# EAGLE library part OLIMEX_IC_H5TQ2G83CFR-H9C (library A13-OLinuXino_WIFI_Rev_G)
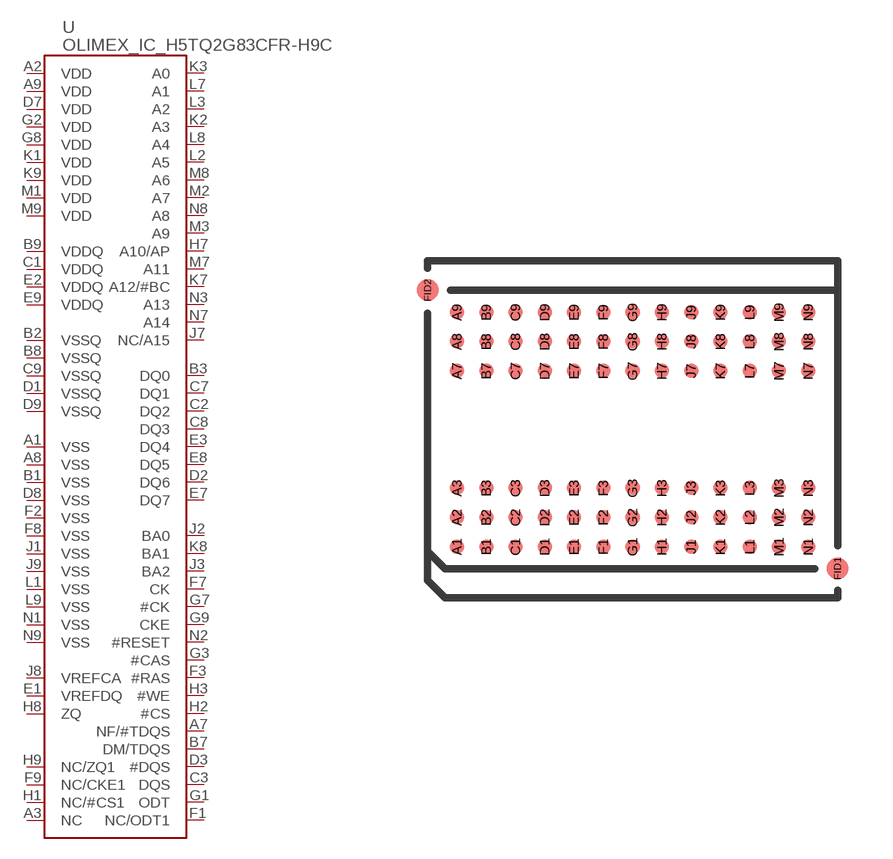
[diagram p9: symbol with the pads of OLIMEX_IC_FBGA78; footprint OLIMEX_IC_FBGA78]

Designator prefix U

## OLIMEX_IC_H5TQ2G83CFR-H9C  [OLIMEX_IC_FBGA78]
A1  VSS  pwr
A2  VDD  pwr
A3  NC  nc
A7  NF/#TDQS
A8  VSS  pwr
A9  VDD  pwr
B1  VSS  pwr
B2  VSSQ  pwr
B3  DQ0
B7  DM/TDQS
B8  VSSQ  pwr
B9  VDDQ  pwr
C1  VDDQ  pwr
C2  DQ2
C3  DQS
C7  DQ1
C8  DQ3
C9  VSSQ  pwr
D1  VSSQ  pwr
D2  DQ6
D3  #DQS
D7  VDD  pwr
D8  VSS  pwr
D9  VSSQ  pwr
E1  VREFDQ
E2  VDDQ  pwr
E3  DQ4
E7  DQ7
E8  DQ5
E9  VDDQ  pwr
F1  NC/ODT1  in
F2  VSS  pwr
F3  #RAS
F7  CK
F8  VSS  pwr
F9  NC/CKE1  in
G1  ODT
G2  VDD  pwr
G3  #CAS
G7  #CK
G8  VDD  pwr
G9  CKE
H1  NC/#CS1  in
H2  #CS
H3  #WE
H7  A10/AP
H8  ZQ
H9  NC/ZQ1  in
J1  VSS  pwr
J2  BA0
J3  BA2
J7  NC/A15  in
J8  VREFCA
J9  VSS  pwr
K1  VDD  pwr
K2  A3
K3  A0
K7  A12/#BC
K8  BA1
K9  VDD  pwr
L1  VSS  pwr
L2  A5
L3  A2
L7  A1
L8  A4
L9  VSS  pwr
M1  VDD  pwr
M2  A7
M3  A9
M7  A11
M8  A6
M9  VDD  pwr
N1  VSS  pwr
N2  #RESET
N3  A13
N7  A14
N8  A8
N9  VSS  pwr

## Footprint OLIMEX_IC_FBGA78 (pad centres in mm)
Rotated counterclockwise 90 by Penko to ba as is in the real reel
smd 0.4 x 0.4: A1 -4.8,-3.2; A2 -4.8,-2.4; A3 -4.8,-1.6; A7 -4.8,1.6; A8 -4.8,2.4; A9 -4.8,3.2; B1 -4,-3.2; B2 -4,-2.4; B3 -4,-1.6; B7 -4,1.6; B8 -4,2.4; B9 -4,3.2; C1 -3.2,-3.2; C2 -3.2,-2.4; C3 -3.2,-1.6; C7 -3.2,1.6; C8 -3.2,2.4; C9 -3.2,3.2; D1 -2.4,-3.2; D2 -2.4,-2.4; D3 -2.4,-1.6; D7 -2.4,1.6; D8 -2.4,2.4; D9 -2.4,3.2; E1 -1.6,-3.2; E2 -1.6,-2.4; E3 -1.6,-1.6; E7 -1.6,1.6; E8 -1.6,2.4; E9 -1.6,3.2; F1 -0.8,-3.2; F2 -0.8,-2.4; F3 -0.8,-1.6; F7 -0.8,1.6; F8 -0.8,2.4; F9 -0.8,3.2; G1 0,-3.2; G2 0,-2.4; G3 0,-1.6; G7 0,1.6; G8 0,2.4; G9 0,3.2; H1 0.8,-3.2; H2 0.8,-2.4; H3 0.8,-1.6; H7 0.8,1.6; H8 0.8,2.4; H9 0.8,3.2; J1 1.6,-3.2; J2 1.6,-2.4; J3 1.6,-1.6; J7 1.6,1.6; J8 1.6,2.4; J9 1.6,3.2; K1 2.4,-3.2; K2 2.4,-2.4; K3 2.4,-1.6; K7 2.4,1.6; K8 2.4,2.4; K9 2.4,3.2; L1 3.2,-3.2; L2 3.2,-2.4; L3 3.2,-1.6; L7 3.2,1.6; L8 3.2,2.4; L9 3.2,3.2; M1 4,-3.2; M2 4,-2.4; M3 4,-1.6; M7 4,1.6; M8 4,2.4; M9 4,3.2; N1 4.8,-3.2; N2 4.8,-2.4; N3 4.8,-1.6; N7 4.8,1.6; N8 4.8,2.4; N9 4.8,3.2
smd 0.6 x 0.6: FID1 5.6,-3.8; FID2 -5.6,3.8